# Altium footprint library PCB_C70005-A2.PcbLib: 21 footprints (part 1 of 2)
Each footprint in its own frame and in the unit in brackets; x right, y up, seen from the top. Pads: shape width x height; smd on the part's side, far side on the other; paste and mask are expansions set on the pad; w line width, h text height; cw(c..) or ccw(c..) is an arc to the next point about the centre after c.
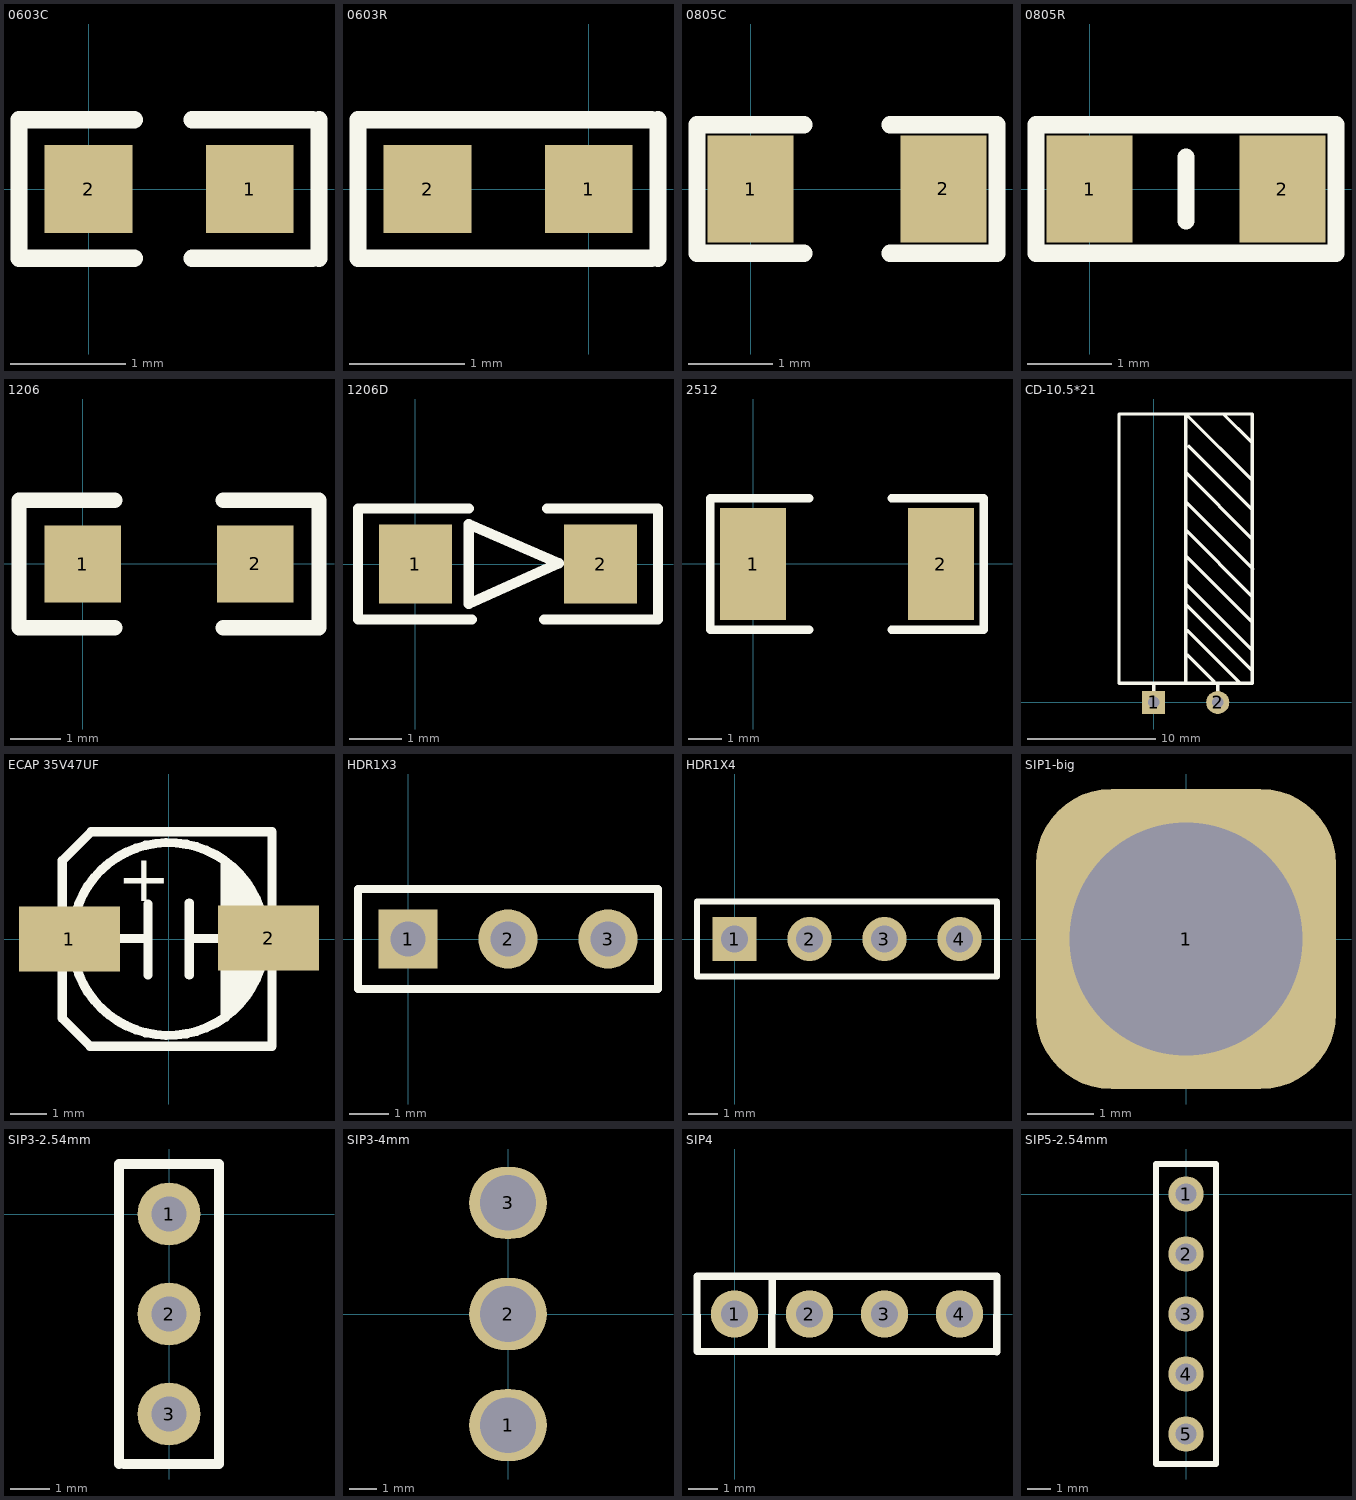
[diagram p0: the footprints below, top view; thin cyan lines are the x and y axes]

## 0603C [mil]
pads (2):
  rect 30x30 smd: 1(55,0) 2(0,0)
Top Overlay:
  lines w5.91: 15.63,-23.62 -23.74,-23.62 -23.74,23.62 15.63,23.62 ; 35.32,-23.62 76.38,-23.62 ; 35.32,23.62 76.38,23.62 ; 78.62,-23.62 78.62,23.62

## 0603R [mil]
pads (2):
  rect 30x30 smd: 1(0,0) 2(-55,0)
Top Overlay:
  lines w5.91: 21.38,-23.62 -19.68,-23.62 -78.74,-23.62 -78.74,23.62 -39.37,23.62 21.38,23.62 ; 23.62,-23.62 23.62,23.62

## 0805C [mil]
pads (2):
  rect 40x50 smd: 1(0,0) 2(90,0)
Top Overlay:
  lines w8: 25,-30 -25,-30 -25,30 25,30 ; 65,-30 115,-30 115,30 65,30

## 0805R [mil]
height 27.56
pads (2):
  rect 40x50 smd: 1(0,0) 2(90,0)
Top Overlay:
  lines w8: 45,-15 45,15 ; -25,-30 -25,30 115,30 115,-30 -25,-30

## 1206 [mil]
pads (2):
  rect 60x60 smd: 1(0,0) 2(135,0)
Top Overlay:
  lines w12: 25,-50 -50,-50 -50,50 25,50 ; 110,-50 185,-50 185,50 110,50

## 1206D [mm]
pads (2):
  rect 1.4x1.524 smd: 1(0,0) 2(3.553,0)
Top Overlay:
  lines w0.2: 1.028,1.066 -1.104,1.066 -1.104,-1.066 1.078,-1.066 ; 2.475,-1.066 4.657,-1.066 4.657,1.066 2.525,1.066 ; 1.024,-0.765 2.748,0.017 1.024,0.763 1.024,-0.765

## 2512 [mm]
pads (2):
  rect 2x3.4 smd: 1(0,0) 2(5.7,0)
Top Overlay:
  lines w0.254: 1.7,-2 -1.3,-2 -1.3,2 1.7,2 ; 4.2,-2 7,-2 7,2 4.2,2

## CD-10.5*21 [mm]
pads (2):
  rect 1.8x1.8 hole 0.9: 1(0,0)
  round 1.8 hole 0.9: 2(5,0)
Top Overlay:
  lines w0.2: -2.326,1.524 2.507,1.524
  lines w0.254: 0,0 0,1.42 ; 2.46,22.5 2.5,22.46 2.5,1.5 ; 2.476,7.683 7.7,2.46 7.7,4.071 2.5,9.271 2.5,10.922 ; 2.493,11.43 7.596,6.326 ; 2.5,15.36 2.5,15.367 ; 2.5,19.598 2.5,19.685 ; 2.536,13.419 7.7,8.255 ; 2.54,17.907 7.7,12.747 7.7,12.7 ; 2.547,15.614 7.747,10.414 ; 2.559,22.46 7.7,17.319 7.7,17.272 ; 2.667,3.683 4.699,1.651 ; 2.667,5.588 6.731,1.524 ; 2.754,19.979 7.66,15.073 ; 4.953,22.5 5.44,22.5 7.62,20.32 ; 5,0 5,1.5 ; -2.7,1.5 -2.7,22.5 7.7,22.5 7.7,1.5 -2.7,1.5

## ECAP 35V47UF [mm]
pads (2):
  rect 2.8x1.8 smd: 1(-2.75,0) 2(2.775,0.025)
Top Overlay:
  circle w0.254: c0,0 r2.676
  rectangle: 2.101,-1.425 2.376,-0.95
  rectangle: 2.401,-0.701 2.576,-0.426
  rectangle: 2.077,-1.102 2.452,-0.452
  rectangle: 1.751,-1.701 2.176,-0.451
  rectangle: 1.576,-2.001 1.926,-0.426
  rectangle: 2.102,0.649 2.477,1.098
  rectangle: 2.027,1.047 2.327,1.447
  rectangle: 1.727,1.548 1.977,1.798
  rectangle: 1.628,1.423 1.878,1.948
  rectangle: 1.526,0.449 2.151,1.624
  rectangle: 1.598,-0.573 2.573,0.752
  lines w0.254: -2.65,0.015 -0.6,0.015 ; -0.575,-1 -0.575,0.975 ; 0.575,-1 0.575,1 ; 0.575,0.015 2.515,0.015 ; 1.575,-2.175 1.575,2.15 ; 2.875,-1 2.875,2.975 -2.15,2.975 -2.95,2.175 -2.95,-2.2 -2.175,-2.975 2.875,-2.975 2.875,-0.7
  text "+" at -1.425,1.05 h1.3

## HDR1X3 [mm] "Connector; Header; 3 Position"
pads (3):
  rect 1.5x1.5 hole 0.9: 1(0,0)
  round 1.5 hole 0.9: 2(2.54,0) 3(5.08,0)
Top Overlay:
  lines w0.2: -1.27,-1.27 -1.27,1.27 6.35,1.27 6.35,-1.27 -1.27,-1.27

## HDR1X4 [mm] "Connector; Header; 4 Position"
pads (4):
  rect 1.5x1.5 hole 0.9: 1(0,0)
  round 1.5 hole 0.9: 2(2.54,0) 3(5.08,0) 4(7.62,0)
Top Overlay:
  lines w0.2: -1.27,-1.27 8.89,-1.27 8.89,1.27 -1.27,1.27 -1.27,-1.27

## SIP1-big [mm]
pads (1):
  rrect50% 4.5x4.5 hole 3.5: 1(0,0)

## SIP3-2.54mm [mm]
pads (3):
  round 1.6 hole 0.9: 1(0,0) 2(0,-2.54) 3(0,-5.08)
Top Overlay:
  lines w0.254: -1.27,-6.35 -1.27,1.27 0,1.27 1.27,1.27 1.27,-6.35 -1.143,-6.35

## SIP3-4mm [mm]
pads (3):
  oval 2.8x2.6 hole 2: 1(0,-4) 2(0,0) 3(0,4)

## SIP4 [mm]
height 0.7
pads (4):
  round 1.6 hole 0.9: 1(0,0) 2(2.54,0) 3(5.08,0) 4(7.62,0)
Top Overlay:
  lines w0.254: 1.27,-1.27 1.27,1.27 ; -1.27,-1.27 -1.27,1.27 8.89,1.27 8.89,-1.27 -1.27,-1.27

## SIP5-2.54mm [mm]
pads (5):
  round 1.5 hole 0.9: 1(0,0) 2(0,-2.54) 3(0,-5.08) 4(0,-7.62) 5(0,-10.16)
Top Overlay:
  lines w0.254: -1.27,-11.43 0,-11.43 1.27,-11.43 1.27,1.27 0,1.27 -1.27,1.27 -1.27,-11.43